# Altium footprint library ZPWL.PcbLib: 168 footprints (part 6 of 11)
Each footprint in its own frame and in the unit in brackets; x right, y up, seen from the top. Pads: shape width x height; smd on the part's side, far side on the other; paste and mask are expansions set on the pad; w line width, h text height; cw(c..) or ccw(c..) is an arc to the next point about the centre after c.
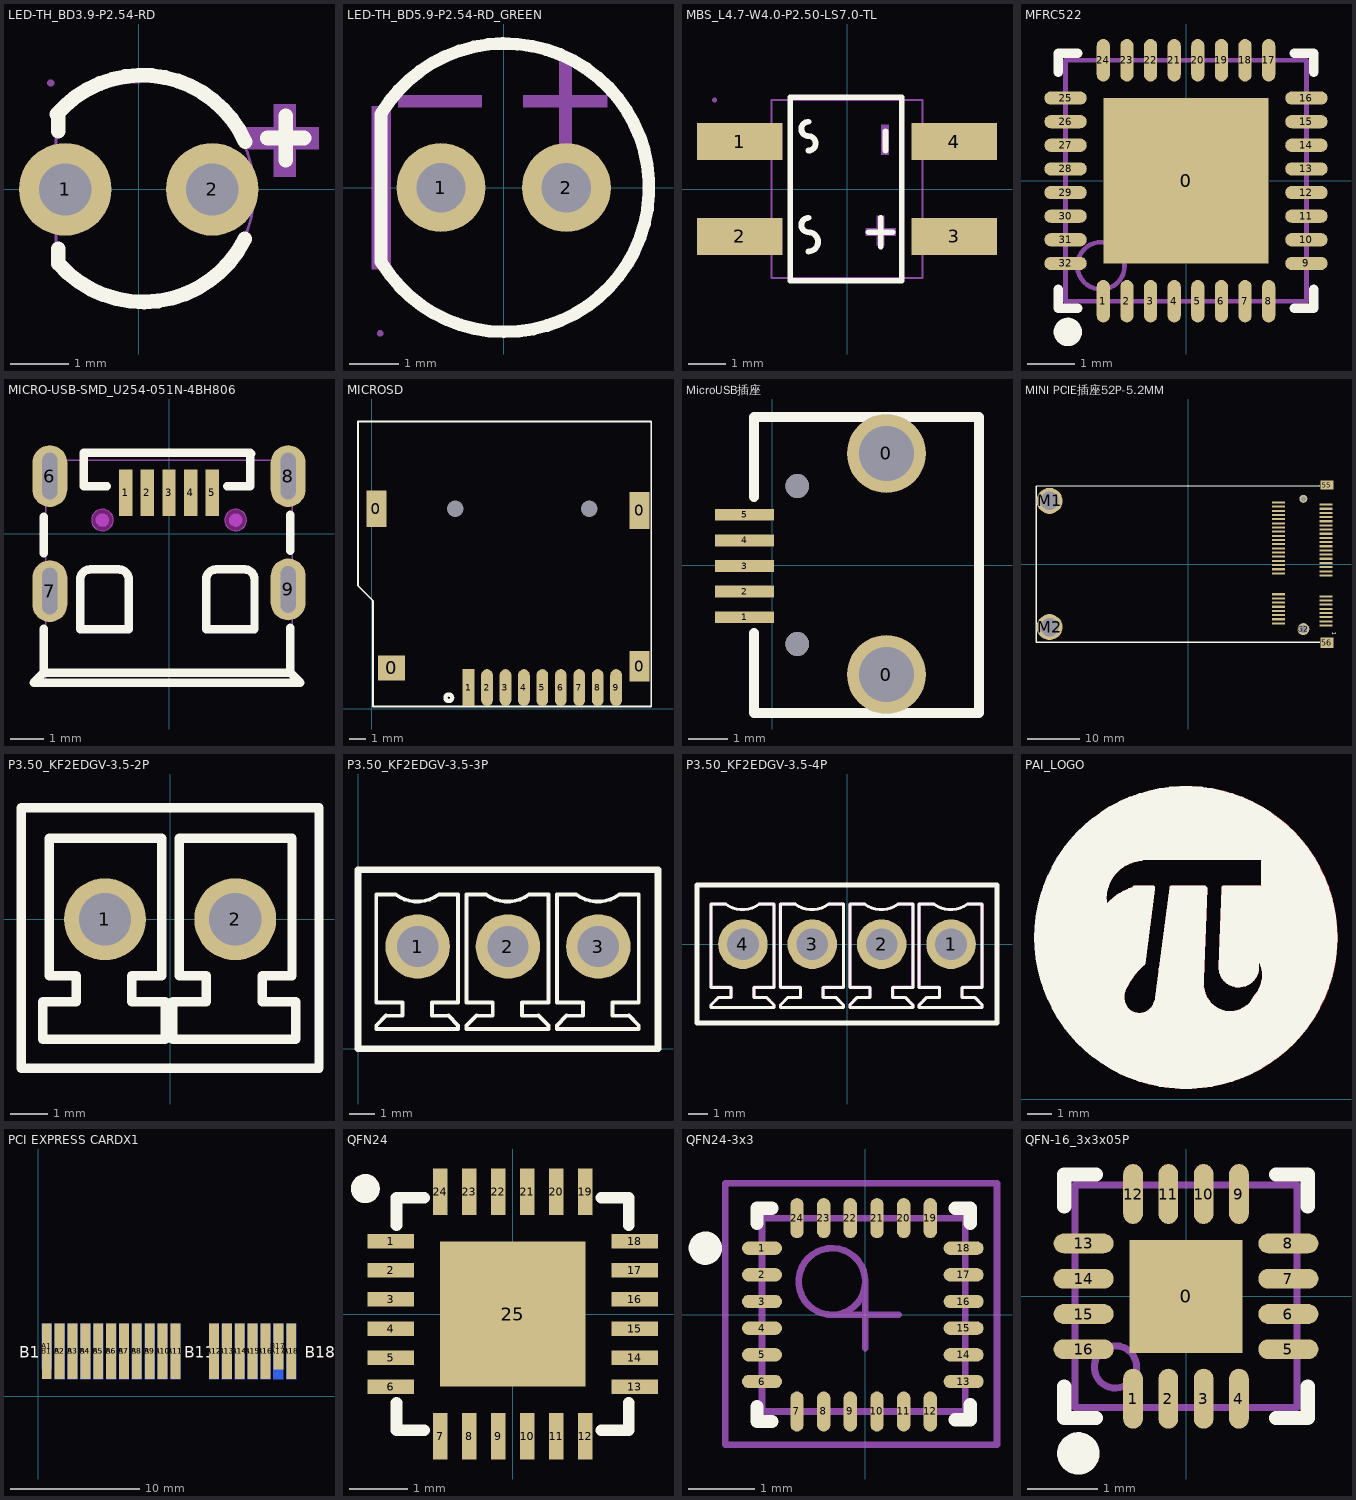
[diagram p5: the footprints below, top view; thin cyan lines are the x and y axes]

## LED-TH_BD3.9-P2.54-RD [mm]
pads (2):
  round 1.6 hole 0.9 copper offset 0,0: 1(-1.27,0) 2(1.27,0)
Top Overlay:
  lines w0.254: -1.416,1.298 cw(c0.062,0.024) 1.84,0.827 ; -1.392,-1.025 -1.392,-1.279 ccw(c0.079,0.014) 1.833,-0.857 ; -1.392,1.007 -1.392,1.261 ; 2.222,0.889 2.857,0.889 ; 2.54,0.508 2.54,1.27
Mechanical 6:
  region: 1.862,1.075 3.116,1.075 3.116,0.691 1.862,0.691
  region: 2.33,0.22 2.33,1.474 2.714,1.474 2.714,0.22
Mechanical 15:
  region: -1.46,1.84 -1.46,1.865 -1.495,1.9 -1.545,1.9 -1.58,1.865 -1.58,1.84 -1.58,1.815 -1.545,1.78 -1.495,1.78 -1.46,1.815 -1.46,1.84
  region: 1.52,0 1.52,0.05 1.482,0.142 1.412,0.212 1.32,0.25 1.22,0.25 1.128,0.212 1.058,0.142 1.02,0.05 1.02,0 1.02,-0.05 1.058,-0.142 1.128,-0.212 1.22,-0.25 1.32,-0.25 1.412,-0.212 1.482,-0.142 1.52,-0.05 1.52,0
  region: -1.02,0 -1.02,0.05 -1.058,0.142 -1.128,0.212 -1.22,0.25 -1.32,0.25 -1.412,0.212 -1.482,0.142 -1.52,0.05 -1.52,0 -1.52,-0.05 -1.482,-0.142 -1.412,-0.212 -1.32,-0.25 -1.22,-0.25 -1.128,-0.212 -1.058,-0.142 -1.02,-0.05 -1.02,0
  lines w0.051: -1.43,-1.24 -1.43,1.16 -1.253,1.337 cw(c0.01,0.073) 0.01,1.86 0,1.87 0.1,1.87 cw(c0.1,-0.03) 2,-0.03 cw(c0.07,-0.03) 0.07,-1.96 0,-1.96 cw(c0,-0.246) -1.212,-1.458 -1.43,-1.24

## LED-TH_BD5.9-P2.54-RD_GREEN [mm]
pads (2):
  round 1.8 hole 1 paste+0 mask+0.05: 1(-1.27,0) 2(1.27,0)
Top Overlay:
  lines w0.254: -2.484,-1.497 -2.484,1.487 ccw(c-2.491,1.487) -2.486,1.491 cw(c0.025,-0.001) -2.475,-1.512
Mechanical 6:
  region: -2.286,-1.651 -2.286,1.651 -2.667,1.651 -2.667,-1.651
  region: 1.126,0.88 1.126,2.58 1.376,2.58 1.376,0.88
  region: -2.14,1.875 -0.44,1.875 -0.44,1.625 -2.14,1.625
  region: 0.4,1.875 2.1,1.875 2.1,1.625 0.4,1.625
Mechanical 15:
  region: -1.52,0.2 -1.02,0.2 -1.02,-0.2 -1.52,-0.2
  region: 1.02,0.2 1.52,0.2 1.52,-0.2 1.02,-0.2
  region: -2.44,-2.95 -2.44,-2.925 -2.475,-2.89 -2.525,-2.89 -2.56,-2.925 -2.56,-2.95 -2.56,-2.975 -2.525,-3.01 -2.475,-3.01 -2.44,-2.975 -2.44,-2.95
  lines w0.051: -2.5,-1.5 -1.878,-2.122 ccw(c0.177,-0.005) 0,-2.95 0.05,-2.95 ccw(c0,0) 2.95,0 ccw(c0,0) 0.05,2.95 0,2.95 ccw(c0.177,0.005) -1.878,2.122 -2.5,1.5 -2.5,-1.5

## MBS_L4.7-W4.0-P2.50-LS7.0-TL [mm]
pads (4):
  rect 2.265x0.98 smd paste+0.051: 1(-2.832,1.25) 2(-2.832,-1.25) 3(2.832,-1.25) 4(2.832,1.25)
Top Overlay:
  lines w0.152: -1.016,-1.651 ccw(c-1.018,-1.397) -1.016,-1.143 cw(c-1.016,-0.952) -1.016,-0.762 ; -1.016,1.016 ccw(c-1.018,1.207) -1.016,1.397 cw(c-1.016,1.588) -1.016,1.778 ; 0.572,-1.143 1.207,-1.143 ; 0.889,-1.524 0.889,-0.762 ; 1.016,1.016 1.016,1.524 ; -1.498,-2.426 1.445,-2.426 1.445,2.426 -1.498,2.426 -1.498,-2.426
Mechanical 2:
  region: 1.291,-1.24 1.291,-1.04 0.491,-1.04 0.491,-1.24
  region: 0.79,-1.506 0.99,-1.506 0.99,-0.706 0.79,-0.706
  region: 0.9,0.9 1.1,0.9 1.1,1.7 0.9,1.7
Mechanical 6:
  lines w0.051: -2,-2.35 -2,2.35 2,2.35 2,-2.35 -2,-2.35
Mechanical 7:
  region: -2.71,-1.55 -2.71,-0.95 -1.99,-0.95 -1.99,-1.55
  region: -2.71,0.95 -2.71,1.55 -1.99,1.55 -1.99,0.95
  region: 1.99,0.95 1.99,1.55 2.71,1.55 2.71,0.95
  region: 1.99,-1.55 1.99,-0.95 2.71,-0.95 2.71,-1.55
Mechanical 8:
  region: -3.44,2.35 -3.44,2.325 -3.475,2.29 -3.525,2.29 -3.56,2.325 -3.56,2.35 -3.56,2.375 -3.525,2.41 -3.475,2.41 -3.44,2.375 -3.44,2.35
Mechanical 9:
  region: -3.5,-1.55 -3.5,-0.95 -2.7,-0.95 -2.7,-1.55
  region: -3.5,0.95 -3.5,1.55 -2.7,1.55 -2.7,0.95
  region: 2.7,0.95 2.7,1.55 3.5,1.55 3.5,0.95
  region: 2.7,-1.55 2.7,-0.95 3.5,-0.95 3.5,-1.55
3D body "整流桥.STEP": height 2.75, standoff 0.15, extent -3.523,-2.294 3.471,2.402

## MFRC522 [mm]
pads (33):
  rect 3.5x3.5 smd paste-1.75 mask+0.051: 0(0,0)
  oval 0.28x0.9 smd mask+0.051: 1(-1.75,-2.55) 2(-1.25,-2.55) 3(-0.75,-2.55) 4(-0.25,-2.55) 5(0.25,-2.55) 6(0.75,-2.55) 7(1.25,-2.55) 8(1.75,-2.55) 17(1.75,2.55) 18(1.25,2.55) 19(0.75,2.55) 20(0.25,2.55) 21(-0.25,2.55) 22(-0.75,2.55) 23(-1.25,2.55) 24(-1.75,2.55)
  oval 0.9x0.28 smd mask+0.051: 9(2.55,-1.75) 10(2.55,-1.25) 11(2.55,-0.75) 12(2.55,-0.25) 13(2.55,0.25) 14(2.55,0.75) 15(2.55,1.25) 16(2.55,1.75) 25(-2.55,1.75) 26(-2.55,1.25) 27(-2.55,0.75) 28(-2.55,0.25) 29(-2.55,-0.25) 30(-2.55,-0.75) 31(-2.55,-1.25) 32(-2.55,-1.75)
Top Overlay:
  circle w0.3: c-2.5,-3.2 r0.15
  lines w0.2: -2.7,-2.295 -2.7,-2.7 -2.295,-2.7 ; -2.7,2.295 -2.7,2.7 -2.295,2.7 ; 2.295,-2.7 2.7,-2.7 2.7,-2.295 ; 2.295,2.7 2.7,2.7 2.7,2.295
Top Paste:
  rectangle: -0.25,-0.25 0.25,0.25
  rectangle: 0.55,-0.25 1.05,0.25
  rectangle: -0.25,-1.05 0.25,-0.55
  rectangle: 0.55,-1.05 1.05,-0.55
  rectangle: -1.05,-1.05 -0.55,-0.55
  rectangle: -1.05,-0.25 -0.55,0.25
  rectangle: -1.05,0.55 -0.55,1.05
  rectangle: -0.25,0.55 0.25,1.05
  rectangle: 0.55,0.55 1.05,1.05
Mechanical 13:
  circle w0.1: c-1.8,-1.8 r0.5
  lines w0.1: -2.55,-2.55 2.55,-2.55 2.55,2.55 -2.55,2.55 -2.55,-2.55

## MICRO-USB-SMD_U254-051N-4BH806 [mm]
pads (9):
  rect 0.4x1.4 smd paste-100 mask+0.051: 1(-1.3,1.225) 2(-0.65,1.225) 3(0,1.225) 4(0.65,1.225) 5(1.3,1.225)
  oval 1.05x1.85 hole 0.45 slot 1.4 at 90 deg: 6(-3.575,1.725) 7(-3.575,-1.725) 8(3.575,1.725) 9(3.575,-1.675)
Top Overlay:
  lines w0.254: -3.76,-2.858 -3.76,-4.175 ; -3.76,-0.592 -3.76,0.5 ; -1.86,1.425 -2.56,1.425 -2.56,2.425 2.44,2.425 ; -1.56,-1.075 -2.36,-1.075 ccw(c-2.36,-1.375) -2.66,-1.375 -2.66,-2.875 -1.26,-2.875 ; -1.51,-1.075 cw(c-1.51,-1.375) -1.21,-1.375 -1.21,-2.875 ; 1.74,1.425 2.44,1.425 2.44,2.425 ; 2.215,-1.075 1.415,-1.075 ccw(c1.415,-1.375) 1.115,-1.375 1.115,-2.875 2.515,-2.875 ; 2.265,-1.075 cw(c2.265,-1.375) 2.565,-1.375 2.565,-2.875 ; 2.465,2.4 cw(c2.465,2.425) 2.44,2.425 ; 3.64,-2.828 3.64,-4.175 ; 3.64,-0.522 3.64,0.572 ; -3.76,-4.175 -4.06,-4.475 3.94,-4.475 3.64,-4.175 ; -3.76,-4.175 3.64,-4.175
Top Paste:
  drawing of 9 lines, arcs and shapes, not listed
Keep-Out Layer:
  board cut-out: 2.325,0.405 2.325,0.47 2.276,0.589 2.184,0.68 2.065,0.73 1.935,0.73 1.816,0.68 1.725,0.589 1.675,0.47 1.675,0.405 1.675,0.34 1.725,0.221 1.816,0.129 1.935,0.08 2.065,0.08 2.184,0.129 2.276,0.221 2.325,0.34 2.325,0.405
  board cut-out: -1.675,0.405 -1.675,0.47 -1.724,0.589 -1.816,0.68 -1.935,0.73 -2.065,0.73 -2.184,0.68 -2.275,0.589 -2.325,0.47 -2.325,0.405 -2.325,0.34 -2.275,0.221 -2.184,0.129 -2.065,0.08 -1.935,0.08 -1.816,0.129 -1.724,0.221 -1.675,0.34 -1.675,0.405
Mechanical 1:
  circle w0.005: c2,0.405 r0.325
  circle w0.005: c-2,0.405 r0.325
Mechanical 6:
  circle w0.2: c2,0.405 r0.1
  circle w0.2: c-2,0.405 r0.1
Mechanical 15:
  region: -3.64,2.2 -3.64,2.225 -3.675,2.26 -3.725,2.26 -3.76,2.225 -3.76,2.2 -3.76,2.175 -3.725,2.14 -3.675,2.14 -3.64,2.175 -3.64,2.2
  region: -3.7,-1.275 -3.45,-1.275 -3.45,-2.175 -3.7,-2.175
  region: 3.45,-1.225 3.7,-1.225 3.7,-2.125 3.45,-2.125
  region: 3.45,2.125 3.7,2.125 3.7,1.325 3.45,1.325
  region: -3.7,2.125 -3.45,2.125 -3.45,1.325 -3.7,1.325
  region: 1.175,1.875 1.425,1.875 1.425,0.575 1.175,0.575
  region: 0.525,1.875 0.775,1.875 0.775,0.575 0.525,0.575
  region: -0.125,1.875 0.125,1.875 0.125,0.575 -0.125,0.575
  region: -0.775,1.875 -0.525,1.875 -0.525,0.575 -0.775,0.575
  region: -1.425,1.875 -1.175,1.875 -1.175,0.575 -1.425,0.575
  lines w0.051: -3.7,-4.4 -3.7,2.2 3.7,2.2 3.7,-4.4 -3.7,-4.4
Multi-Layer keep-out:
  region: 2.325,0.405 2.325,0.47 2.276,0.589 2.184,0.68 2.065,0.73 1.935,0.73 1.816,0.68 1.725,0.589 1.675,0.47 1.675,0.405 1.675,0.34 1.725,0.221 1.816,0.129 1.935,0.08 2.065,0.08 2.184,0.129 2.276,0.221 2.325,0.34 2.325,0.405
  region: -1.675,0.405 -1.675,0.47 -1.724,0.589 -1.816,0.68 -1.935,0.73 -2.065,0.73 -2.184,0.68 -2.275,0.589 -2.325,0.47 -2.325,0.405 -2.325,0.34 -2.275,0.221 -2.184,0.129 -2.065,0.08 -1.935,0.08 -1.816,0.129 -1.724,0.221 -1.675,0.34 -1.675,0.405

## MICROSD [mm]
height 0.9
pads (15):
  rect 1.2x2.2 smd: 0(0.278,11.941) 0(15.978,11.841)
  rect 1.6x1.5 smd: 0(1.178,2.441)
  round 0 hole 1: 0(4.978,11.941) 0(12.978,11.941)
  rect 1.2x1.8 smd: 0(15.978,2.541)
  rect 0.7x2.2 smd: 1(5.778,1.267)
  oval 0.7x2.2 smd: 2(6.878,1.267) 3(7.978,1.267) 4(9.078,1.267) 5(10.178,1.267) 6(11.278,1.267) 7(12.378,1.267) 8(13.478,1.267) 9(14.578,1.267)
Top Overlay:
  circle w0.254: c4.597,0.66 r0.198
  lines w0.1: -0.822,7.341 -0.822,17.141 16.678,17.141 16.678,0.141 0.078,0.141 0.078,6.441 -0.822,7.341
3D body "sdcard.STEP": height 1.8, standoff -0.7, extent -0.174,1.48 16.099,16.674

## MicroUSB插座 [mm]
pads (7):
  round 2 hole 1.4: 0(2.896,-2.775) 0(2.896,2.825)
  rect 1.5x0.3 smd: 1(-0.7,-1.325) 2(-0.7,-0.675) 3(-0.7,-0.025) 4(-0.7,0.625) 5(-0.7,1.275)
via 0.635,2 diameter 0.6 hole 0.6
via 0.635,-2 diameter 0.6 hole 0.6
Top Overlay:
  lines w0.254: -0.457,-1.727 -0.457,-3.75 5.243,-3.75 5.243,3.75 -0.457,3.75 -0.457,1.727

## MINI PCIE插座52P-5.2MM [mm]
pads (58):
  rect 2.5x0.4 smd: 1(26.45,-11.8) 2(17.35,-11.4) 3(26.45,-11) 4(17.35,-10.6) 5(26.45,-10.2) 6(17.35,-9.8) 7(26.45,-9.4) 8(17.35,-9) 9(26.45,-8.6) 10(17.35,-8.2) 11(26.45,-7.8) 12(17.35,-7.4) 13(26.45,-7) 14(17.35,-6.6) 15(26.45,-6.2) 16(17.35,-5.8) 17(26.45,-2.2) 18(17.35,-1.8) 19(26.45,-1.4) 20(17.35,-1) 21(26.45,-0.6) 22(17.35,-0.2) 23(26.45,0.2) 24(17.35,0.6) 25(26.45,1) 26(17.35,1.4) 27(26.45,1.8) 28(17.35,2.2) 29(26.45,2.6) 30(17.35,3) 31(26.45,3.4) 32(17.35,3.8) 33(26.45,4.2) 34(17.35,4.6) 35(26.45,5) 36(17.35,5.4) 37(26.45,5.8) 38(17.35,6.2) 39(26.45,6.6) 40(17.35,7) 41(26.45,7.4) 42(17.35,7.8) 43(26.45,8.2) 44(17.35,8.6) 45(26.45,9) 46(17.35,9.4) 47(26.45,9.8) 48(17.35,10.2) 49(26.45,10.6) 50(17.35,11) 51(26.45,11.4) 52(17.35,11.8)
  rect 2.5x1.8 smd: 55(26.6,15.15)
  rect 2.5x2 smd: 56(26.6,-15.15)
  round 1.524 hole 0.991: G1(22.1,12.5)
  round 2.286 hole 1.524: G2(22.1,-12.5)
  round 5 hole 3.5: M1(-26.6,12.12) M2(-26.6,-12.116)
Top Overlay:
  lines w0.254: 25.263,-15.005 -29.208,-15.008 -29.208,14.948 25.263,14.967
  text "1" at 27.593,-13.019 h0.76
3D body "MINI PCIE插座.S": height 3.95, standoff -0.7, extent 17.504,-14.925 26.594,14.975

## P3.50_KF2EDGV-3.5-2P [mm]
pads (2):
  round 2.2 hole 1.4: 1(-1.75,0) 2(1.75,0)
Top Overlay:
  lines w0.254: -4,-4 4,-4 4,3 -4,3 -4,-4 ; -3.425,-3.22 -0.125,-3.22 -0.125,-2.62 -0.125,-2.22 -1.025,-2.22 -1.025,-1.52 -0.225,-1.52 -0.225,2.18 -3.252,2.18 -3.252,-1.52 -2.525,-1.52 -2.525,-2.12 -2.525,-2.22 -3.425,-2.22 -3.425,-3.22 ; 0.075,-3.22 3.375,-3.22 3.375,-2.62 3.375,-2.22 2.475,-2.22 2.475,-1.52 3.275,-1.52 3.275,2.18 0.248,2.18 0.248,-1.52 0.975,-1.52 0.975,-2.12 0.975,-2.22 0.075,-2.22 0.075,-3.22
Mechanical 15:
  region: 1.35,0.4 2.15,0.4 2.15,-0.4 1.35,-0.4
  region: -2.15,0.4 -1.35,0.4 -1.35,-0.4 -2.15,-0.4
  region: -3.94,-4 -3.94,-3.975 -3.975,-3.94 -4.025,-3.94 -4.06,-3.975 -4.06,-4 -4.06,-4.025 -4.025,-4.06 -3.975,-4.06 -3.94,-4.025 -3.94,-4
  lines w0.051: -4,-4 4,-4 4,3 -4,3 -4,-4
3D body "KF2EDGV-3.5-2P.STEP": height 9.3, standoff -3.6, extent -4.001,-4 4,3

## P3.50_KF2EDGV-3.5-3P [mm]
pads (3):
  round 2.5 hole 1.6: 1(2.314,3.968) 2(5.814,3.968) 3(9.314,3.968)
Top Overlay:
  lines w0.152: 0.707,0.78 0.707,0.907 ; 0.707,0.78 3.882,0.78 ; 0.707,0.78 0.707,0.907 ; 0.707,0.907 1.088,1.288 ; 0.707,0.907 1.088,1.288 ; 0.707,1.796 0.707,4.209 ; 0.707,1.796 1.723,1.796 ; 0.707,1.796 0.707,4.209 ; 0.707,1.796 1.723,1.796 ; 0.707,4.209 0.707,5.987 1.459,5.987 ccw(c2.294,7.116) 3.129,5.986 3.882,5.987 ; 1.088,1.288 1.723,1.287 ; 1.088,1.288 1.723,1.287 ; 1.723,1.287 1.723,1.415 ; 1.723,1.287 1.723,1.415 ; 1.723,1.415 1.723,1.796 ; 1.723,1.415 1.723,1.796 ; 2.864,1.287 2.993,1.287 ; 2.864,1.287 2.864,1.796 ; 2.864,1.287 2.993,1.287 ; 2.864,1.287 2.864,1.796 ; 2.864,1.796 3.882,1.796 ; 2.864,1.796 3.882,1.796 ; 2.993,1.287 3.501,1.288 ; 2.993,1.287 3.501,1.288 ; 3.501,1.288 3.882,0.907 ; 3.501,1.288 3.882,0.907 ; 3.882,0.78 3.882,0.907 ; 3.882,0.78 3.882,0.907 ; 3.882,1.796 3.882,5.987 ; 3.882,1.796 3.882,5.987 ; 4.206,0.78 4.206,0.907 ; 4.206,0.78 7.381,0.78 ; 4.206,0.78 4.206,0.907 ; 4.206,0.907 4.587,1.288 ; 4.206,0.907 4.587,1.288 ; 4.206,1.796 4.206,4.209 ; 4.206,1.796 5.222,1.796 ; 4.206,1.796 4.206,4.209 ; 4.206,1.796 5.222,1.796 ; 4.206,4.209 4.206,5.987 4.959,5.987 ccw(c5.794,7.116) 6.629,5.986 7.381,5.987 ; 4.587,1.288 5.222,1.287 ; 4.587,1.288 5.222,1.287 ; 5.222,1.287 5.222,1.415 ; 5.222,1.287 5.222,1.415 ; 5.222,1.415 5.222,1.796 ; 5.222,1.415 5.222,1.796 ; 6.364,1.287 6.492,1.287 ; 6.364,1.287 6.364,1.796 ; 6.364,1.287 6.492,1.287 ; 6.364,1.287 6.364,1.796 ; 6.364,1.796 7.381,1.796 ; 6.364,1.796 7.381,1.796 ; 6.492,1.287 7,1.288 ; 6.492,1.287 7,1.288 ; 7,1.288 7.381,0.907 ; 7,1.288 7.381,0.907 ; 7.381,0.78 7.381,0.907 ; 7.381,0.78 7.381,0.907 ; 7.381,1.796 7.381,5.987 ; 7.381,1.796 7.381,5.987 ; 7.707,0.78 7.707,0.907 ; 7.707,0.78 10.882,0.78 ; 7.707,0.78 7.707,0.907 ; 7.707,0.907 8.088,1.288 ; 7.707,0.907 8.088,1.288 ; 7.707,1.796 7.707,4.209 ; 7.707,1.796 8.723,1.796 ; 7.707,1.796 7.707,4.209 ; 7.707,1.796 8.723,1.796 ; 7.707,4.209 7.707,5.987 8.459,5.987 ccw(c9.294,7.116) 10.129,5.986 10.882,5.987 ; 8.088,1.288 8.723,1.287 ; 8.088,1.288 8.723,1.287 ; 8.723,1.287 8.723,1.415 ; 8.723,1.287 8.723,1.415 ; 8.723,1.415 8.723,1.796 ; 8.723,1.415 8.723,1.796 ; 9.864,1.287 9.993,1.287 ; 9.864,1.287 9.864,1.796 ; 9.864,1.287 9.993,1.287 ; 9.864,1.287 9.864,1.796 ; 9.864,1.796 10.882,1.796 ; 9.864,1.796 10.882,1.796 ; 9.993,1.287 10.501,1.288 ; 9.993,1.287 10.501,1.288 ; 10.501,1.288 10.882,0.907 ; 10.501,1.288 10.882,0.907 ; 10.882,0.78 10.882,0.907 ; 10.882,0.78 10.882,0.907 ; 10.882,1.796 10.882,5.987 ; 10.882,1.796 10.882,5.987
  lines w0.254: 0,0 0,6.944 11.628,6.944 11.628,0 0,0
Mechanical 15:
  region: 3.014,3.968 3.014,4.06 2.966,4.238 2.874,4.398 2.744,4.528 2.584,4.62 2.406,4.668 2.222,4.668 2.044,4.62 1.884,4.528 1.754,4.398 1.662,4.238 1.614,4.06 1.614,3.968 1.614,3.876 1.662,3.698 1.754,3.538 1.884,3.408 2.044,3.316 2.222,3.268 2.406,3.268 2.584,3.316 2.744,3.408 2.874,3.538 2.966,3.698 3.014,3.876 3.014,3.968
  region: 6.514,3.968 6.514,4.06 6.466,4.238 6.374,4.398 6.244,4.528 6.084,4.62 5.906,4.668 5.722,4.668 5.544,4.62 5.384,4.528 5.254,4.398 5.161,4.238 5.114,4.06 5.114,3.968 5.114,3.876 5.161,3.698 5.254,3.538 5.384,3.408 5.544,3.316 5.722,3.268 5.906,3.268 6.084,3.316 6.244,3.408 6.374,3.538 6.466,3.698 6.514,3.876 6.514,3.968
  region: 10.014,3.968 10.014,4.06 9.966,4.238 9.874,4.398 9.744,4.528 9.584,4.62 9.406,4.668 9.222,4.668 9.044,4.62 8.884,4.528 8.754,4.398 8.662,4.238 8.614,4.06 8.614,3.968 8.614,3.876 8.662,3.698 8.754,3.538 8.884,3.408 9.044,3.316 9.222,3.268 9.406,3.268 9.584,3.316 9.744,3.408 9.874,3.538 9.966,3.698 10.014,3.876 10.014,3.968
3D body "KF2EDGV-3.5-3P.STEP": height 9.3, standoff -3.6, extent 0.063,0 11.564,7

## P3.50_KF2EDGV-3.5-4P [mm]
pads (4):
  round 2.5 hole 1.6: 1(5.25,0) 2(1.75,0) 3(-1.75,0) 4(-5.25,0)
Top Overlay:
  lines w0.152: -6.857,-3.188 -6.857,-3.061 ; -6.857,-3.188 -3.682,-3.188 ; -6.857,-3.188 -6.857,-3.061 ; -6.857,-3.061 -6.476,-2.68 ; -6.857,-3.061 -6.476,-2.68 ; -6.857,-2.172 -5.841,-2.172 ; -6.857,-2.172 -6.857,0.241 ; -6.857,-2.172 -5.841,-2.172 ; -6.857,-2.172 -6.857,0.241 ; -6.857,0.241 -6.857,2.019 -6.105,2.019 ccw(c-5.27,3.148) -4.435,2.018 -3.682,2.019 ; -6.476,-2.68 -5.841,-2.681 ; -6.476,-2.68 -5.841,-2.681 ; -5.841,-2.681 -5.841,-2.553 ; -5.841,-2.681 -5.841,-2.553 ; -5.841,-2.553 -5.841,-2.172 ; -5.841,-2.553 -5.841,-2.172 ; -4.7,-2.681 -4.7,-2.172 ; -4.7,-2.681 -4.571,-2.681 ; -4.7,-2.681 -4.7,-2.172 ; -4.7,-2.681 -4.571,-2.681 ; -4.7,-2.172 -3.682,-2.172 ; -4.7,-2.172 -3.682,-2.172 ; -4.571,-2.681 -4.063,-2.68 ; -4.571,-2.681 -4.063,-2.68 ; -4.063,-2.68 -3.682,-3.061 ; -4.063,-2.68 -3.682,-3.061 ; -3.682,-3.188 -3.682,-3.061 ; -3.682,-3.188 -3.682,-3.061 ; -3.682,-2.172 -3.682,2.019 ; -3.682,-2.172 -3.682,2.019 ; -3.357,-3.188 -3.357,-3.061 ; -3.357,-3.188 -0.182,-3.188 ; -3.357,-3.188 -3.357,-3.061 ; -3.357,-3.061 -2.976,-2.68 ; -3.357,-3.061 -2.976,-2.68 ; -3.357,-2.172 -2.341,-2.172 ; -3.357,-2.172 -3.357,0.241 ; -3.357,-2.172 -2.341,-2.172 ; -3.357,-2.172 -3.357,0.241 ; -3.357,0.241 -3.357,2.019 -2.605,2.019 ccw(c-1.77,3.148) -0.935,2.018 -0.182,2.019 ; -2.976,-2.68 -2.341,-2.681 ; -2.976,-2.68 -2.341,-2.681 ; -2.341,-2.681 -2.341,-2.553 ; -2.341,-2.681 -2.341,-2.553 ; -2.341,-2.553 -2.341,-2.172 ; -2.341,-2.553 -2.341,-2.172 ; -1.2,-2.681 -1.2,-2.172 ; -1.2,-2.681 -1.071,-2.681 ; -1.2,-2.681 -1.2,-2.172 ; -1.2,-2.681 -1.071,-2.681 ; -1.2,-2.172 -0.182,-2.172 ; -1.2,-2.172 -0.182,-2.172 ; -1.071,-2.681 -0.563,-2.68 ; -1.071,-2.681 -0.563,-2.68 ; -0.563,-2.68 -0.182,-3.061 ; -0.563,-2.68 -0.182,-3.061 ; -0.182,-3.188 -0.182,-3.061 ; -0.182,-3.188 -0.182,-3.061 ; -0.182,-2.172 -0.182,2.019 ; -0.182,-2.172 -0.182,2.019 ; 0.143,-3.188 0.143,-3.061 ; 0.143,-3.188 3.318,-3.188 ; 0.143,-3.188 0.143,-3.061 ; 0.143,-3.061 0.524,-2.68 ; 0.143,-3.061 0.524,-2.68 ; 0.143,-2.172 1.159,-2.172 ; 0.143,-2.172 0.143,0.241 ; 0.143,-2.172 1.159,-2.172 ; 0.143,-2.172 0.143,0.241 ; 0.143,0.241 0.143,2.019 0.895,2.019 ccw(c1.73,3.148) 2.565,2.018 3.318,2.019 ; 0.524,-2.68 1.159,-2.681 ; 0.524,-2.68 1.159,-2.681 ; 1.159,-2.681 1.159,-2.553 ; 1.159,-2.681 1.159,-2.553 ; 1.159,-2.553 1.159,-2.172 ; 1.159,-2.553 1.159,-2.172 ; 2.3,-2.681 2.3,-2.172 ; 2.3,-2.681 2.429,-2.681 ; 2.3,-2.681 2.3,-2.172 ; 2.3,-2.681 2.429,-2.681 ; 2.3,-2.172 3.318,-2.172 ; 2.3,-2.172 3.318,-2.172 ; 2.429,-2.681 2.937,-2.68 ; 2.429,-2.681 2.937,-2.68 ; 2.937,-2.68 3.318,-3.061 ; 2.937,-2.68 3.318,-3.061 ; 3.318,-3.188 3.318,-3.061 ; 3.318,-3.188 3.318,-3.061 ; 3.318,-2.172 3.318,2.019 ; 3.318,-2.172 3.318,2.019 ; 3.643,-3.188 3.643,-3.061 ; 3.643,-3.188 6.818,-3.188 ; 3.643,-3.188 3.643,-3.061 ; 3.643,-3.061 4.024,-2.68 ; 3.643,-3.061 4.024,-2.68 ; 3.643,-2.172 4.659,-2.172 ; 3.643,-2.172 3.643,0.24 ; 3.643,-2.172 4.659,-2.172 ; 3.643,-2.172 3.643,0.24 ; 3.643,0.24 3.643,2.019 4.395,2.018 ccw(c5.23,3.148) 6.065,2.018 6.818,2.019 ; 4.024,-2.68 4.659,-2.681 ; 4.024,-2.68 4.659,-2.681 ; 4.659,-2.681 4.659,-2.553 ; 4.659,-2.681 4.659,-2.553 ; 4.659,-2.553 4.659,-2.172 ; 4.659,-2.553 4.659,-2.172 ; 5.8,-2.681 5.8,-2.172 ; 5.8,-2.681 5.929,-2.681 ; 5.8,-2.681 5.8,-2.172 ; 5.8,-2.681 5.929,-2.681 ; 5.8,-2.172 6.818,-2.172 ; 5.8,-2.172 6.818,-2.172 ; 5.929,-2.681 6.437,-2.68 ; 5.929,-2.681 6.437,-2.68 ; 6.437,-2.68 6.818,-3.061 ; 6.437,-2.68 6.818,-3.061 ; 6.818,-3.188 6.818,-3.061 ; 6.818,-3.188 6.818,-3.061 ; 6.818,-2.172 6.818,2.019 ; 6.818,-2.172 6.818,2.019
  lines w0.254: -7.564,-3.968 7.564,-3.968 7.564,2.976 -7.564,2.976 -7.564,-3.968
Mechanical 6:
  drawing of 20 lines, arcs and shapes, not listed
Mechanical 15:
  region: -7.41,-3.97 -7.41,-3.945 -7.445,-3.91 -7.495,-3.91 -7.53,-3.945 -7.53,-3.97 -7.53,-3.995 -7.495,-4.03 -7.445,-4.03 -7.41,-3.995 -7.41,-3.97
  region: 5.68,-0.445 4.82,-0.445 4.82,0.445 5.68,0.445
  region: 2.18,-0.445 1.32,-0.445 1.32,0.445 2.18,0.445
  region: -1.32,-0.445 -2.18,-0.445 -2.18,0.445 -1.32,0.445
  region: -4.82,-0.445 -5.68,-0.445 -5.68,0.445 -4.82,0.445
  lines w0.051: -7.5,-4 -7.5,3 7.5,3 7.5,-4 -7.5,-4
3D body "KF2EDGV-3.5-4P.STEP": height 9.3, standoff -3.6, extent -7.501,-3.968 7.501,3.032

## PAI_LOGO [mm]
Top Layer:
  lines w0.152: 1.219,5.664 5.486,5.664 ; 1.219,5.817 5.563,5.817 ; 1.219,5.969 5.588,5.969 ; 1.219,6.121 5.588,6.121 ; 1.219,6.274 5.639,6.274 ; 1.219,6.426 5.639,6.426 ; 1.219,6.579 5.639,6.579 ; 1.219,6.731 5.639,6.731 ; 1.219,6.883 5.69,6.883 ; 1.219,7.036 5.69,7.036 ; 1.219,7.188 5.74,7.188 ; 1.219,7.341 5.74,7.341 ; 1.219,7.493 5.791,7.493 ; 1.219,7.645 5.791,7.645 ; 1.372,5.055 5.004,5.055 ; 1.372,5.207 5.156,5.207 ; 1.372,5.359 5.283,5.359 ; 1.372,5.512 5.436,5.512 ; 1.372,7.798 5.791,7.798 ; 1.372,7.95 5.791,7.95 ; 1.372,8.103 3.912,8.103 ; 1.372,8.255 3.937,8.255 ; 1.524,4.597 4.75,4.597 ; 1.524,4.75 4.851,4.75 ; 1.524,4.902 4.902,4.902 ; 1.524,8.407 3.962,8.407 ; 1.524,8.56 3.937,8.56 ; 1.524,8.712 3.988,8.712 ; 1.676,4.293 4.699,4.293 ; 1.676,4.445 4.724,4.445 ; 1.676,8.865 4.013,8.865 ; 1.676,9.017 4.115,9.017 ; 1.676,9.169 4.166,9.169 ; 1.829,3.835 4.724,3.835 ; 1.829,3.988 4.674,3.988 ; 1.829,4.14 4.674,4.14 ; 1.829,9.322 4.293,9.322 ; 1.829,9.474 4.496,9.474 ; 1.981,3.683 4.877,3.683 ; 1.981,9.627 4.648,9.627 ; 2.134,3.378 12.497,3.378 ; 2.134,3.531 5.08,3.531 ; 2.134,9.779 4.978,9.779 ; 2.134,9.931 12.497,9.931 ; 2.286,3.226 12.344,3.226 ; 2.286,10.084 12.344,10.084 ; 2.438,2.921 12.192,2.921 ; 2.438,3.073 12.192,3.073 ; 2.438,10.236 12.192,10.236 ; 2.438,10.389 12.192,10.389 ; 2.591,2.769 12.04,2.769 ; 2.591,10.541 12.04,10.541 ; 2.743,2.616 11.887,2.616 ; 2.743,10.693 11.887,10.693 ; 2.896,2.464 11.735,2.464 ; 2.896,10.846 11.735,10.846 ; 3.048,2.311 11.582,2.311 ; 3.048,10.998 11.582,10.998 ; 3.2,2.159 11.43,2.159 ; 3.2,11.151 11.43,11.151 ; 3.353,2.007 11.278,2.007 ; 3.353,11.303 11.278,11.303 ; 3.505,1.854 11.125,1.854 ; 3.505,11.455 11.125,11.455 ; 3.81,1.702 10.82,1.702 ; 3.81,11.608 10.82,11.608 ; 3.962,1.549 10.668,1.549 ; 3.962,11.76 10.668,11.76 ; 4.267,1.397 10.363,1.397 ; 4.267,11.913 10.363,11.913 ; 4.318,8.103 5.842,8.103 ; 4.42,8.255 5.842,8.255 ; 4.42,12.065 10.211,12.065 ; 4.572,1.245 10.058,1.245 ; 4.572,8.407 5.867,8.407 ; 4.724,12.217 9.754,12.217 ; 4.877,1.092 9.754,1.092 ; 4.877,8.56 5.944,8.712 5.182,8.712 ; 5.182,0.94 9.449,0.94 ; 5.182,12.37 9.449,12.37 ; 5.639,0.787 8.992,0.787 ; 5.639,12.522 8.992,12.522 ; 5.715,3.531 12.497,3.531 ; 5.918,3.683 8.56,3.683 ; 5.994,3.835 8.331,3.835 ; 6.096,4.14 8.077,4.14 ; 6.121,3.988 8.179,3.988 ; 6.147,4.293 7.95,4.293 ; 6.172,4.445 7.976,4.445 ; 6.248,4.597 7.899,4.597 ; 6.248,4.75 7.925,4.75 ; 6.248,4.902 7.925,4.902 ; 6.248,5.055 7.925,5.055 ; 6.248,5.207 7.925,5.207 ; 6.248,5.359 7.925,5.359 ; 6.248,12.675 8.382,12.675 ; 6.401,0.635 8.23,0.635 ; 6.401,5.512 7.925,5.512 ; 6.401,5.664 7.925,5.664 ; 6.401,5.817 7.925,5.817 ; 6.401,5.969 7.925,5.969 ; 6.401,6.121 7.925,6.121 ; 6.401,6.274 7.925,6.274 ; 6.401,6.426 7.925,6.426 ; 6.553,6.579 7.925,6.579 ; 6.553,6.731 7.925,6.731 ; 6.553,6.883 7.925,6.883 ; 6.553,7.036 7.925,7.036 ; 6.553,7.188 7.925,7.188 ; 6.553,7.341 7.925,7.341 ; 6.553,7.493 7.925,7.493 ; 6.553,7.645 8.077,7.645 ; 6.706,7.798 8.077,7.798 ; 6.706,7.95 8.077,7.95 ; 6.706,8.103 8.077,8.103 ; 6.706,8.255 8.077,8.255 ; 6.706,8.407 8.077,8.407 ; 6.706,8.56 8.077,8.56 ; 6.706,8.712 8.077,8.712 ; 8.738,5.664 13.259,5.664 ; 8.738,5.817 13.411,5.817 ; 8.738,6.121 13.411,6.121 ; 8.763,5.512 10.211,5.512 ; 8.763,5.969 13.411,5.969 ; 8.763,6.274 13.411,6.274 ; 8.763,6.426 13.411,6.426 ; 8.763,6.579 13.411,6.579 ; 8.788,6.731 13.411,6.731 ; 8.788,6.883 13.411,6.883 ; 8.788,7.188 13.411,7.188 ; 8.814,7.036 13.411,7.036 ; 8.839,5.207 10.211,5.207 ; 8.839,5.359 10.211,5.359 ; 8.839,7.341 13.411,7.341 ; 8.839,7.493 13.411,7.493 ; 8.839,7.645 13.259,7.645 ; 8.839,7.798 13.259,7.798 ; 8.839,7.95 13.259,7.95 ; 8.839,8.103 13.259,8.103 ; 8.839,8.255 13.259,8.255 ; 8.839,8.407 13.106,8.407 ; 8.839,8.56 13.106,8.56 ; 8.839,8.712 13.106,8.712 ; 8.992,4.902 9.982,4.902 ; 8.992,5.055 10.058,5.055 ; 9.296,4.75 9.754,4.75 ; 9.728,3.683 12.649,3.683 ; 9.957,3.835 12.649,3.835 ; 10.058,3.988 12.802,3.988 ; 10.16,4.14 12.802,4.14 ; 10.324,4.293 12.954,4.293 ; 10.439,4.445 12.954,4.445 ; 10.465,4.597 13.106,4.597 ; 10.465,4.75 13.106,4.75 ; 10.516,4.902 13.106,4.902 ; 10.516,5.055 13.259,5.055 ; 10.516,5.207 13.259,5.207 ; 10.516,5.359 13.259,5.359 ; 10.516,5.512 13.259,5.512 ; 10.516,8.865 12.954,8.865 ; 10.516,9.017 12.954,9.017 ; 10.516,9.169 12.802,9.169 ; 10.516,9.322 12.802,9.322 ; 10.516,9.474 12.649,9.474 ; 10.516,9.627 12.649,9.627 ; 10.516,9.779 12.497,9.779
  lines w0.254: 3.912,8.103 cw(c5.588,8.255) 5.436,9.931 ; 4.064,7.899 cw(c5.829,6.413) 5.204,8.634 ; 4.623,4.191 4.674,4.547 ; 4.648,4.267 ccw(c5.385,4.166) 6.11,4.002 ; 4.653,4.422 cw(c7.391,3.353) 5.512,5.613 5.893,8.661 ; 5.055,8.585 5.817,8.585 ; 6.121,3.988 6.756,8.661 ; 6.248,12.675 ccw(c7.315,6.655) 6.249,12.675 ; 7.899,4.42 8.052,8.661 ; 7.925,4.597 ccw(c9.119,4.699) 10.186,4.154 ; 8.763,5.385 ccw(c9.474,5.436) 10.179,5.544 ; 8.763,5.461 8.89,8.661 ; 10.16,4.14 ccw(c9.195,5.105) 10.399,5.748 ; 10.516,8.865 10.516,9.779
Top Overlay:
  drawing of 182 lines, arcs and shapes, not listed

## PCI EXPRESS CARDX1 [mil]
pads (36):
  rect 30x140 smd far side: A1(25.59,151.81)
  rect 30x170 smd far side: A2(64.96,136.81) A3(104.33,136.81) A4(143.7,136.81) A5(183.07,136.81) A6(222.44,136.81) A7(261.81,136.81) A8(301.18,136.81) A9(340.55,136.81) A10(379.92,136.81) A11(419.29,136.81) A12(537.4,136.81) A13(576.77,136.81) A14(616.14,136.81) A15(655.51,136.81) A16(694.88,136.81) A17(734.25,136.81) A18(773.62,136.81)
  rect 30x170 smd: B1(25.59,136.81) B2(64.96,136.81) B3(104.33,136.81) B4(143.7,136.81) B5(183.07,136.81) B6(222.44,136.81) B7(261.81,136.81) B8(301.18,136.81) B9(340.55,136.81) B10(379.92,136.81) B11(419.29,136.81) B12(537.4,136.81) B13(576.77,136.81) B14(616.14,136.81) B15(655.51,136.81) B16(694.88,136.81) B18(773.62,136.81)
  rect 30x140 smd: B17(734.25,151.81)
Top Overlay:
  text "B18" at 815.59,116.81 h35
  text "B11" at 445.59,116.81 h35
  text "B1" at -59.41,116.81 h35
Bottom Overlay:
  text "A1" at -14.41,116.81 h35
  text "A18" at 895.59,116.81 h35
Drill Drawing:
  lines w7: 0,430.12 0,20 20,0 420.94,0 440.94,20.01 440.94,293.31 cw(c478.35,293.31) 478.35,330.71 cw(c478.35,293.31) 515.75,293.31 515.75,20 535.75,0 780.87,0 800.87,20 800.87,501.97

## QFN24 [mm]
pads (25):
  rect 0.8x0.25 smd: 1(-2.101,1.25) 2(-2.101,0.75) 3(-2.101,0.25) 4(-2.101,-0.25) 5(-2.101,-0.75) 6(-2.101,-1.25) 13(2.101,-1.25) 14(2.101,-0.75) 15(2.101,-0.25) 16(2.101,0.25) 17(2.101,0.75) 18(2.101,1.25)
  rect 0.25x0.8 smd: 7(-1.25,-2.101) 8(-0.75,-2.101) 9(-0.25,-2.101) 10(0.25,-2.101) 11(0.75,-2.101) 12(1.25,-2.101) 19(1.25,2.101) 20(0.75,2.101) 21(0.25,2.101) 22(-0.25,2.101) 23(-0.75,2.101) 24(-1.25,2.101)
  rect 2.5x2.5 smd: 25(0,0)
Top Overlay:
  circle w0.25: c-2.538,2.159 r0.125
  lines w0.2: -2,-1.525 -2,-2 -1.525,-2 ; -2,1.525 -2,2 -1.525,2 ; 1.525,-2 2,-2 2,-1.525 ; 1.525,2 2,2 2,1.525

## QFN24-3x3 [mm]
pads (24):
  oval 0.6x0.2 smd: 1(-1.55,1) 2(-1.55,0.6) 3(-1.55,0.2) 4(-1.55,-0.2) 5(-1.55,-0.6) 6(-1.55,-1) 13(1.475,-1) 14(1.475,-0.6) 15(1.475,-0.2) 16(1.475,0.2) 17(1.475,0.6) 18(1.475,1)
  oval 0.2x0.6 smd: 7(-1.025,-1.45) 8(-0.625,-1.45) 9(-0.225,-1.45) 10(0.175,-1.45) 11(0.575,-1.45) 12(0.975,-1.45) 19(0.975,1.45) 20(0.575,1.45) 21(0.175,1.45) 22(-0.225,1.45) 23(-0.625,1.45) 24(-1.025,1.45)
Top Overlay:
  circle w0.25: c-2.4,1 r0.125
  lines w0.2: -1.625,-1.375 -1.625,-1.6 -1.4,-1.6 ; -1.625,1.375 -1.625,1.6 -1.4,1.6 ; 1.35,-1.575 1.575,-1.575 1.575,-1.35 ; 1.35,1.6 1.575,1.6 1.575,1.375
Mechanical 13:
  circle w0.1: c-0.5,0.5 r0.5
  lines w0.1: -1.55,-1.45 -1.55,1.45 1.5,1.45 1.5,-1.45 -1.55,-1.45
Mechanical 15:
  lines w0.1: -0.5,0 0.5,0 ; 0,-0.5 0,0.5 ; -2.1,-1.95 -2.1,1.975 1.975,1.975 1.975,-1.95 -2.1,-1.95
3D body: height 0.9, standoff 0.02, extent -1.525,-1.45 1.525,1.45

## QFN-16_3x3x05P [mm] "QFN, 16-Leads, Body 3.00x3.00mm, Pitch 0.50mm, Thermal Pad 1.70x1.70mm, IPC Medium Density"
height 1
pads (17):
  rect 1.6x1.6 smd mask+0.051: 0(0,0)
  oval 0.28x0.85 smd mask+0.051: 1(-0.75,-1.45) 2(-0.25,-1.45) 3(0.25,-1.45) 4(0.75,-1.45) 9(0.75,1.45) 10(0.25,1.45) 11(-0.25,1.45) 12(-0.75,1.45)
  oval 0.85x0.28 smd mask+0.051: 5(1.45,-0.75) 6(1.45,-0.25) 7(1.45,0.25) 8(1.45,0.75) 13(-1.45,0.75) 14(-1.45,0.25) 15(-1.45,-0.25) 16(-1.45,-0.75)
Top Overlay:
  circle w0.3: c-1.525,-2.225 r0.15
  lines w0.2: -1.725,-1.275 -1.725,-1.725 -1.275,-1.725 ; -1.725,1.275 -1.725,1.725 -1.275,1.725 ; 1.275,-1.725 1.725,-1.725 1.725,-1.275 ; 1.275,1.725 1.725,1.725 1.725,1.275
Mechanical 13:
  circle w0.1: c-1,-1 r0.3
  lines w0.1: -1.575,-1.575 -1.575,1.575 1.575,1.575 1.575,-1.575 -1.575,-1.575
3D body "QFN16 3x3.STEP": height 0.9, standoff 0, extent -1.521,-1.549 1.521,1.493